# EAGLE library part LT1025-SO8 (library Neel)
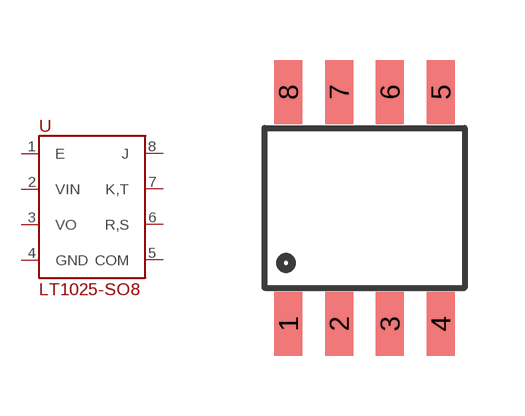
[diagram p39: symbol with the pads of SO-8; footprint SO-8]

Designator prefix -

## LT1025-SO8  [SO-8]
1  E
2  VIN
3  VO
4  GND
5  COM
6  R,S
7  K,T
8  J

## Footprint SO-8 (pad centres in mm)
smd 0.7 x 1.6: 1 -1.905,-2.9; 2 -0.635,-2.9; 3 0.635,-2.9; 4 1.905,-2.9; 5 1.905,2.9; 6 0.635,2.9; 7 -0.635,2.9; 8 -1.905,2.9